# Altium footprint library MOLEX_0430450227.PcbLib: 1 footprints
Each footprint in its own frame and in the unit in brackets; x right, y up, seen from the top. Pads: shape width x height; smd on the part's side, far side on the other; paste and mask are expansions set on the pad; w line width, h text height; cw(c..) or ccw(c..) is an arc to the next point about the centre after c.
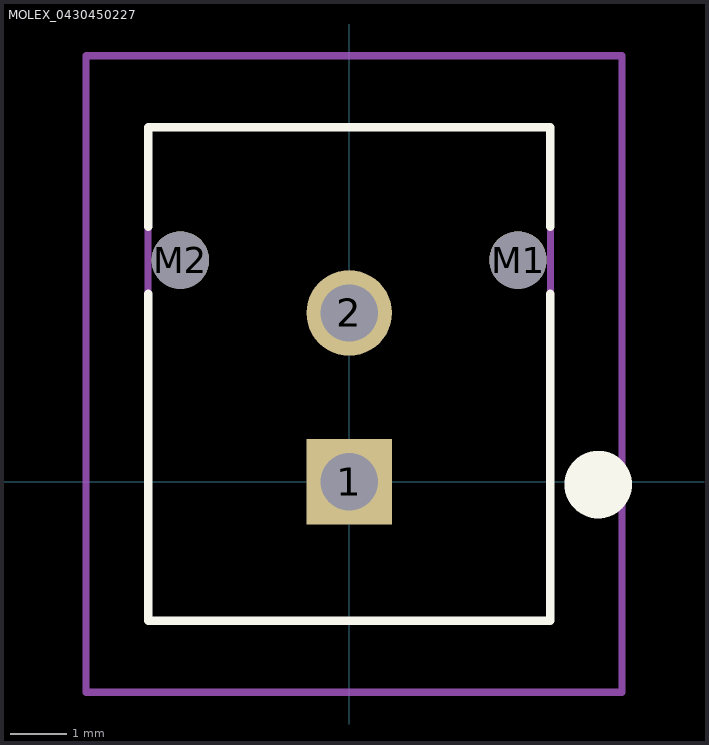
[diagram p0: the footprint, top view; thin cyan lines are the x and y axes]

## MOLEX_0430450227 [mm]
pads (4):
  rect 1.52x1.52 hole 1.02 mask+0.076: 1(0,0)
  round 1.52 hole 1.02 mask+0.076: 2(0,3)
  round 1.02 hole 1.02 unplated mask+0.076: M1(3,3.94) M2(-3,3.94)
Top Overlay:
  circle w1: c4.425,-0.05 r0.1
  lines w0.152: -3.575,3.345 -3.575,-2.47 3.575,-2.47 3.575,3.345 ; -3.575,4.535 -3.575,6.3 3.575,6.3 3.575,4.535
Mechanical 13:
  lines w0.127: -3.575,-2.47 3.575,-2.47 3.575,6.3 -3.575,6.3 -3.575,-2.47
Mechanical 15:
  lines w0.127: -4.675,-3.74 -4.675,7.57 4.845,7.57 4.845,-3.74 -4.675,-3.74
3D body: height 0.25, standoff 0, extent 0,0 0.254,0.254
3D body "430450227.stp": height 9.95, standoff -3.14, extent -3.575,-2.47 3.575,6.3